# Altium schematic symbol library Resistor_Jamper.Schlib: 1 symbol
Pins are listed as number, name and electrical type; pins without a type are passive.

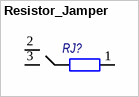
[diagram p0: symbol Resistor_Jamper]

## Resistor_Jamper
designator RJ?, comment OSM R1-8  (value not drawn)
Resistor-Jumper; Назначение: Резистор для выбора режима; Наименование: Резистор; Потребление, Вт: 0,0
footprint SMD_JMP_0402
footprint SMD_JMP_0603
footprint SMD_JMP_0805
pins: 1, 2, 3